# Altium footprint library Cnverter.PcbLib: 105 footprints (part 7 of 7)
Each footprint in its own frame and in the unit in brackets; x right, y up, seen from the top. Pads: shape width x height; smd on the part's side, far side on the other; paste and mask are expansions set on the pad; w line width, h text height; cw(c..) or ccw(c..) is an arc to the next point about the centre after c.
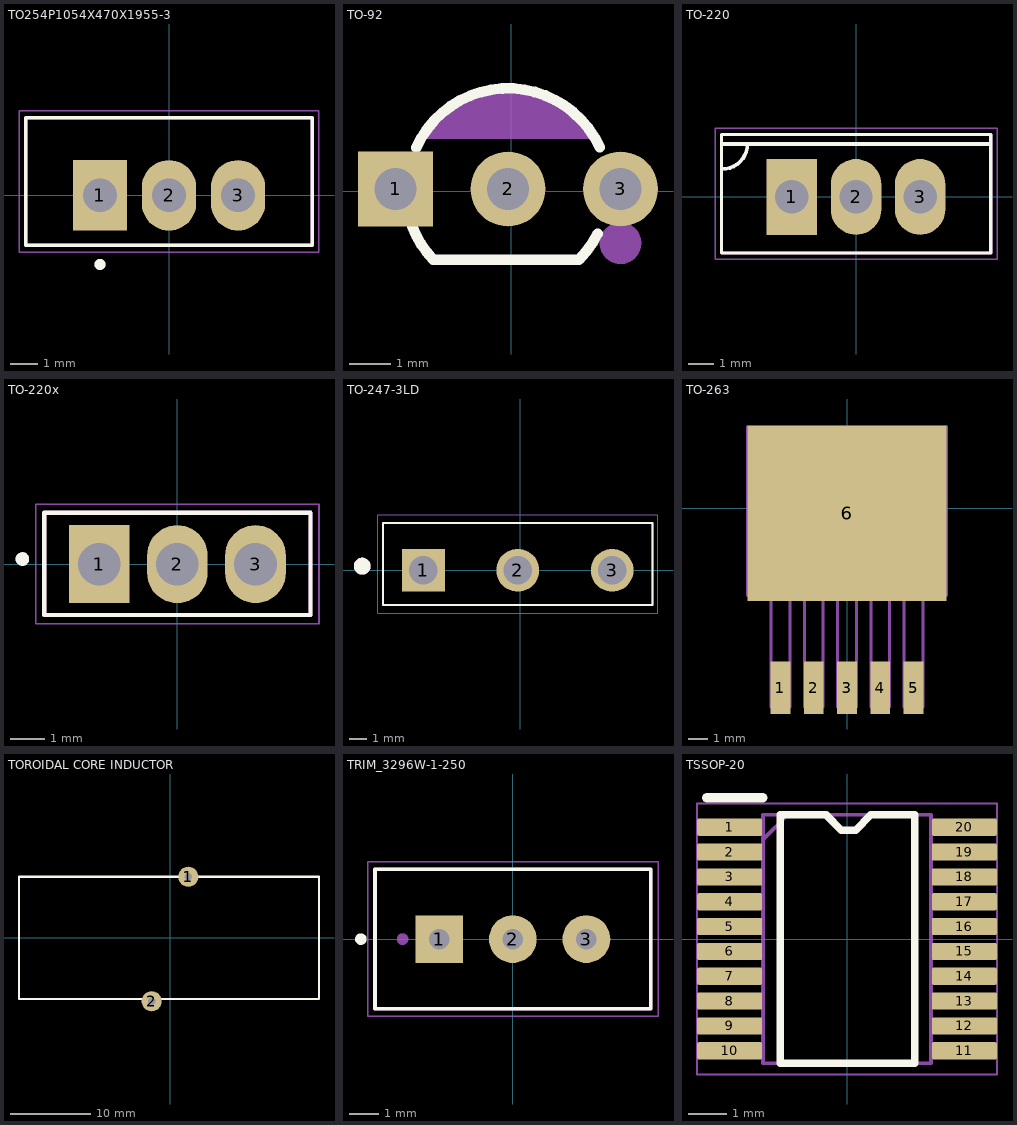
[diagram p6: the footprints below, top view; thin cyan lines are the x and y axes]

## TO254P1054X470X1955-3 [mm]
pads (3):
  rect 2x2.6 hole 1.24: 1(-2.54,0)
  oval 2x2.6 hole 1.24: 2(0,0) 3(2.54,0)
Top Overlay:
  circle w0.2: c-2.54,-2.54 r0.1
  lines w0.127: -5.27,-1.84 5.27,-1.84 5.27,2.86 -5.27,2.86 -5.27,-1.84
Top Assembly:
  circle w0.2: c-2.54,-2.54 r0.1
  lines w0.127: -5.27,-1.84 5.27,-1.84 5.27,2.86 -5.27,2.86 -5.27,-1.84
Top Courtyard:
  lines w0.05: -5.52,-2.09 5.52,-2.09 5.52,3.11 -5.52,3.11 -5.52,-2.09
3D body "step_temp.STEP": height 15.49, standoff -13.84, extent -5.08,-2.349 5.08,2.349

## TO-92 [mm]
pads (3):
  rect 1.8x1.8 hole 1 paste+0 mask+0.051: 1(-2.783,0.049)
  round 1.8 hole 1 paste+0 mask+0.051: 2(-0.083,0.049) 3(2.617,0.049)
Top Overlay:
  lines w0.254: -2.383,-0.851 ccw(c-0.083,0.049) -1.882,-1.644 ccw(c-1.864,-1.626) -1.864,-1.651 1.617,-1.651 ccw(c-0.083,0.049) 2.067,-1.026 ; -2.287,1.041 cw(c-0.083,0.049) 2.117,1.049
Top Courtyard:
  circle w0.5: c2.617,-1.251 r0.25
  region: -2.183,1.249 -1.619,1.813 -1.468,1.964 -1.112,2.202 -0.717,2.365 -0.297,2.449 -0.083,2.449 0.131,2.449 0.551,2.365 0.946,2.202 1.302,1.964 1.453,1.813 2.017,1.249
3D body "SS8050CTA.STEP": height 8.77, standoff -13, extent -2.909,-1.368 2.751,2.252

## TO-220 [mm] "TO-220"
pads (3):
  rect 2x3 hole 1.32: 1(-2.54,0)
  oval 2x3 hole 1.32: 2(0,0) 3(2.54,0)
Top Overlay:
  lines w0.127: -5.335,-2.225 -5.335,2.475 5.335,2.475 5.335,-2.225 -5.335,-2.225
  lines w0.15: -5.3,1.1 ccw(c-5.3,2.1) -4.3,2.1 ; -5.3,2.1 5.3,2.1
Top Assembly:
  lines w0.127: -5.335,-2.225 5.335,-2.225 5.335,2.475 -5.335,2.475 -5.335,-2.225
Top Courtyard:
  lines w0.05: -5.585,-2.475 5.585,-2.475 5.585,2.725 -5.585,2.725 -5.585,-2.475
3D body "step_temp.STEP": height 19.68, standoff -10.34, extent -4.985,-1.759 4.985,2.686

## TO-220x [mil]
pads (3):
  rect 70x90 hole 49.21: 1(-90.16,0)
  oval 70x90 hole 49.21: 2(0,0) 3(90.16,0)
Top Overlay:
  circle w7.87: c-178.74,5.91 r3.94
  lines w5: -153.54,-58.66 153.54,-58.66 153.54,59.45 -153.54,59.45 -153.54,-58.66
Top Assembly:
  circle w7.87: c-178.74,5.91 r3.94
  lines w5: -153.54,-58.66 153.54,-58.66 153.54,59.45 -153.54,59.45 -153.54,-58.66
Top Courtyard:
  lines w1.97: -163.39,-68.7 163.39,-68.7 163.39,69.09 -163.39,69.09 -163.39,-68.7
3D body "BD139.stp": height 631.89, standoff -433.07, extent -153.54,-42.52 153.54,71.65

## TO-247-3LD [mm]
pads (3):
  rect 2.52x2.52 hole 1.68: 1(-5.715,0)
  round 2.52 hole 1.68: 2(-0.155,0) 3(5.405,0)
Top Overlay:
  circle w0.5: c-9.315,0.24 r0.25
  lines w0.127: -8.095,-2.04 -8.095,2.78 7.785,2.78 7.785,-2.04 -8.095,-2.04
Top Assembly:
  circle w0.5: c-9.315,0.24 r0.25
  lines w0.127: -8.095,-2.04 -8.095,2.78 7.785,2.78 7.785,-2.04 -8.095,-2.04
Top Courtyard:
  lines w0.05: -8.415,-2.53 -8.415,3.27 8.105,3.27 8.105,-2.53 -8.415,-2.53
3D body "step_temp.STEP": height 24.75, standoff -12.32, extent -8.001,-2.096 7.619,2.604

## TO-263 [mil]
pads (6):
  rect 40x106 smd: 1(-134,-361) 2(-67,-361) 3(0,-361) 4(67,-361) 5(134,-361)
  rect 400x352 smd: 6(0,-10)
Top Assembly:
  lines w6: -200,-175 200,-175 200,165 -200,165 -200,-175 ; -153,-400 -153,-175 -115,-175 -115,-400 -153,-400 ; -86,-400 -86,-175 -48,-175 -48,-400 -86,-400 ; -19,-400 -19,-175 19,-175 19,-400 -19,-400 ; 48,-400 48,-175 86,-175 86,-400 48,-400 ; 115,-400 115,-175 153,-175 153,-400 115,-400
3D body "step_temp.STEP": height 183.07, standoff -5.91, extent -200,-390 200,174.96

## TOROIDAL CORE INDUCTOR [mil]
pads (2):
  round 98.42 hole 36 paste+0 mask+2: 1(90,300) 2(-90,-310)
Top Overlay:
  lines w10: -740,-300 730,-300 730,300 -740,300 -740,-300
3D body "Toroidal Coil Inductor.STEP": height 1522.34, standoff -818.78, extent -734.86,-297.44 734.82,297.44

## TRIM_3296W-1-250 [mil]
pads (3):
  rect 65x65 hole 27.95: 1(-100,0)
  round 65 hole 27.95: 2(0,0) 3(100,0)
Top Overlay:
  circle w7.87: c-206.69,0 r3.94
  lines w5: -187.6,-94.88 187.6,-94.88 187.6,95.28 -187.6,95.28 -187.6,-94.88
Top Assembly:
  circle w7.87: c-150,0 r3.94
  lines w5: -187.6,-94.88 -187.6,95.28 187.6,95.28 187.6,-94.88 -187.6,-94.88
Top Courtyard:
  lines w1.97: -197.44,-104.72 -197.44,105.12 197.44,105.12 197.44,-104.72 -197.44,-104.72
3D body "step_temp.STEP": height 454.72, standoff -303.94, extent -187.6,-94.88 187.6,95.28

## TSSOP-20 [mm]
pads (20):
  rrect20% 1.7x0.45 smd: 1(-3.07,2.925) 2(-3.07,2.275) 3(-3.07,1.625) 4(-3.07,0.975) 5(-3.07,0.325) 6(-3.07,-0.325) 7(-3.07,-0.975) 8(-3.07,-1.625) 9(-3.07,-2.275) 10(-3.07,-2.925) 11(3.07,-2.925) 12(3.07,-2.275) 13(3.07,-1.625) 14(3.07,-0.975) 15(3.07,-0.325) 16(3.07,0.325) 17(3.07,0.975) 18(3.07,1.625) 19(3.07,2.275) 20(3.07,2.925)
Top Overlay:
  lines w0.2: -1.75,-3.25 1.775,-3.25 1.775,3.25 0.625,3.25 0.225,2.85 -0.15,2.85 -0.55,3.25 -1.75,3.25 -1.75,-3.25
  lines w0.25: -3.675,3.7 -2.2,3.7
Top Assembly:
  lines w0.05: -3.925,-3.55 -3.925,3.55 3.925,3.55 3.925,-3.55 -3.925,-3.55
  lines w0.1: -2.2,2.6 -1.55,3.25 ; -2.2,-3.25 -2.2,3.25 2.2,3.25 2.2,-3.25 -2.2,-3.25
3D body "step_temp.STEP": height 1.16, standoff -0.04, extent -3.2,-3.25 3.2,3.25